# Altium schematic symbol library HOLE_SIZE_3mm.SchLib: 1 symbol
Pins are listed as number, name and electrical type; pins without a type are passive.

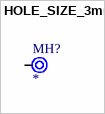
[diagram p0: symbol HOLE_SIZE_3mm]

## HOLE_SIZE_3mm
designator MH?  (no BOM)
footprint HOLE_3mm
pins: MH 1